# EAGLE library part PIC16F1934 (library 1dah)
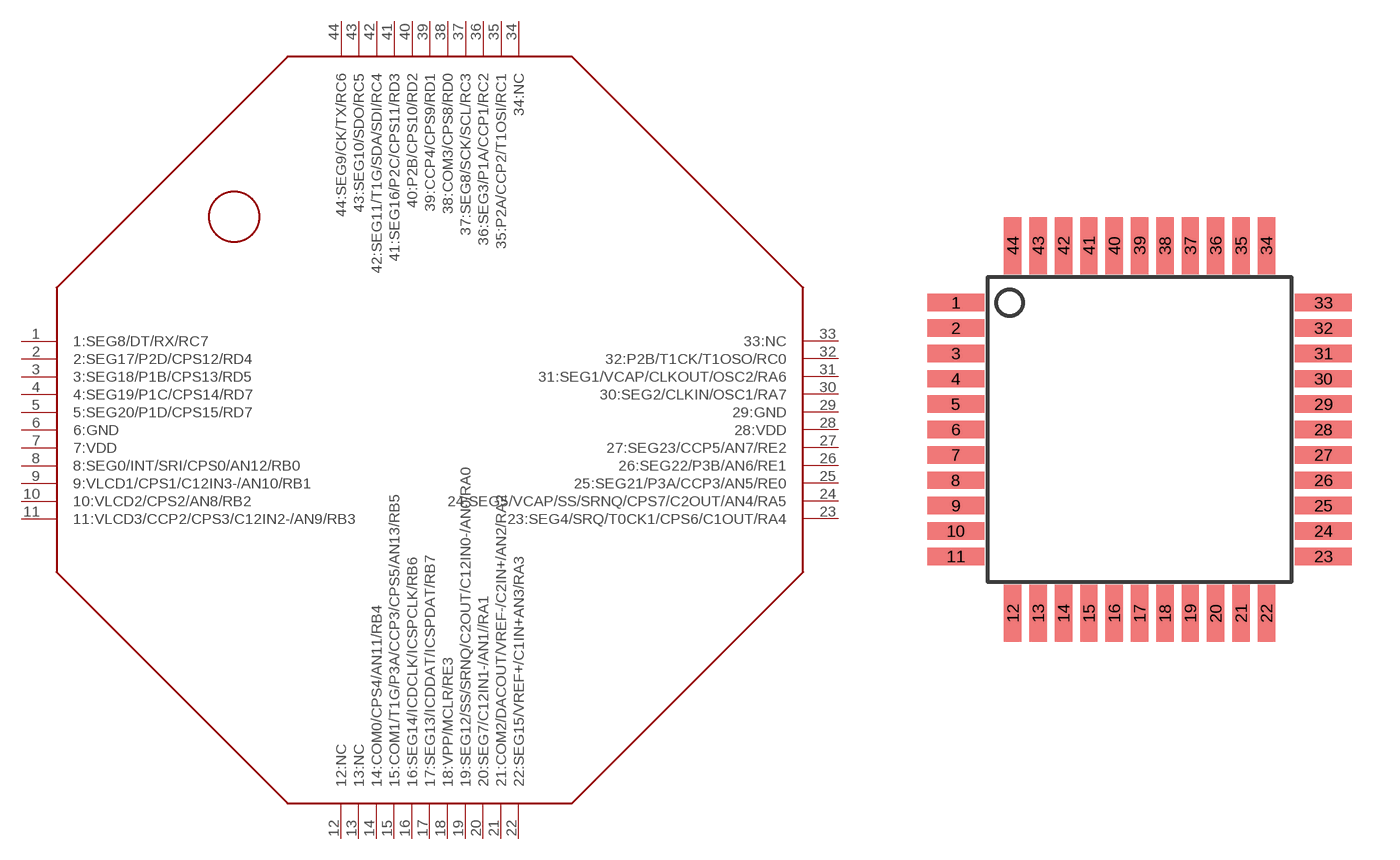
[diagram p28: symbol with the pads of TQFP44; footprint TQFP44]

Designator prefix -

## PIC16F1934  [TQFP44]
1  1:SEG8/DT/RX/RC7
2  2:SEG17/P2D/CPS12/RD4
3  3:SEG18/P1B/CPS13/RD5
4  4:SEG19/P1C/CPS14/RD7
5  5:SEG20/P1D/CPS15/RD7
6  6:GND
7  7:VDD
8  8:SEG0/INT/SRI/CPS0/AN12/RB0
9  9:VLCD1/CPS1/C12IN3-/AN10/RB1
10  10:VLCD2/CPS2/AN8/RB2
11  11:VLCD3/CCP2/CPS3/C12IN2-/AN9/RB3
12  12:NC
13  13:NC
14  14:COM0/CPS4/AN11/RB4
15  15:COM1/T1G/P3A/CCP3/CPS5/AN13/RB5
16  16:SEG14/ICDCLK/ICSPCLK/RB6
17  17:SEG13/ICDDAT/ICSPDAT/RB7
18  18:VPP/MCLR/RE3
19  19:SEG12/SS/SRNQ/C2OUT/C12IN0-/AN0/RA0
20  20:SEG7/C12IN1-/AN1//RA1
21  21:COM2/DACOUT/VREF-/C2IN+/AN2/RA2
22  22:SEG15/VREF+/C1IN+AN3/RA3
23  23:SEG4/SRQ/T0CK1/CPS6/C1OUT/RA4
24  24:SEG5/VCAP/SS/SRNQ/CPS7/C2OUT/AN4/RA5
25  25:SEG21/P3A/CCP3/AN5/RE0
26  26:SEG22/P3B/AN6/RE1
27  27:SEG23/CCP5/AN7/RE2
28  28:VDD
29  29:GND
30  30:SEG2/CLKIN/OSC1/RA7
31  31:SEG1/VCAP/CLKOUT/OSC2/RA6
32  32:P2B/T1CK/T1OSO/RC0
33  33:NC
34  34:NC
35  35:P2A/CCP2/T1OSI/RC1
36  36:SEG3/P1A/CCP1/RC2
37  37:SEG8/SCK/SCL/RC3
38  38:COM3/CPS8/RD0
39  39:CCP4/CPS9/RD1
40  40:P2B/CPS10/RD2
41  41:SEG16/P2C/CPS11/RD3
42  42:SEG11/T1G/SDA/SDI/RC4
43  43:SEG10/SDO/RC5
44  44:SEG9/CK/TX/RC6

## Footprint TQFP44 (pad centres in mm)
smd 1.8 x 0.55: 1 -5.8,4; 2 -5.8,3.2; 3 -5.8,2.4; 4 -5.8,1.6; 5 -5.8,0.8; 6 -5.8,0; 7 -5.8,-0.8; 8 -5.8,-1.6; 9 -5.8,-2.4; 10 -5.8,-3.2; 11 -5.8,-4; 23 5.8,-4; 24 5.8,-3.2; 25 5.8,-2.4; 26 5.8,-1.6; 27 5.8,-0.8; 28 5.8,0; 29 5.8,0.8; 30 5.8,1.6; 31 5.8,2.4; 32 5.8,3.2; 33 5.8,4
smd 0.55 x 1.8: 12 -4,-5.8; 13 -3.2,-5.8; 14 -2.4,-5.8; 15 -1.6,-5.8; 16 -0.8,-5.8; 17 0,-5.8; 18 0.8,-5.8; 19 1.6,-5.8; 20 2.4,-5.8; 21 3.2,-5.8; 22 4,-5.8; 34 4,5.8; 35 3.2,5.8; 36 2.4,5.8; 37 1.6,5.8; 38 0.8,5.8; 39 0,5.8; 40 -0.8,5.8; 41 -1.6,5.8; 42 -2.4,5.8; 43 -3.2,5.8; 44 -4,5.8